# EAGLE library part MY_PARTS_POLOLU_GEAR_MOTOR (library main)
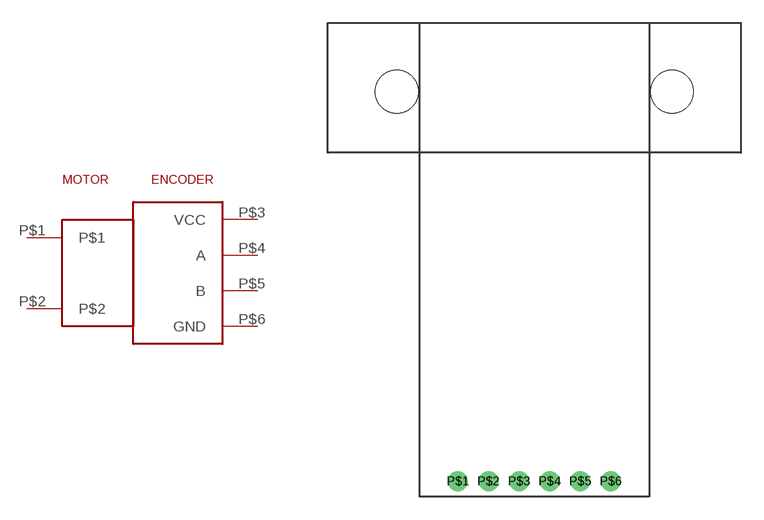
[diagram p1: symbol with the pads of MY_PARTS_POLOLU_GEAR_MOTOR; footprint MY_PARTS_POLOLU_GEAR_MOTOR]

Designator prefix -

## MY_PARTS_POLOLU_GEAR_MOTORPOLO  [MY_PARTS_POLOLU_GEAR_MOTOR]
P$1  P$1
P$2  P$2
P$3  VCC
P$4  A
P$5  B
P$6  GND

## Footprint MY_PARTS_POLOLU_GEAR_MOTOR (pad centres in mm)
drill 0.8: P$1 -5,-14.5; P$2 -3,-14.5; P$3 -1,-14.5; P$4 1,-14.5; P$5 3,-14.5; P$6 5,-14.5
hole 2.8 at -9,11
hole 2.8 at 9,11